# EAGLE library part ST2378ETTR (library mgr_components)
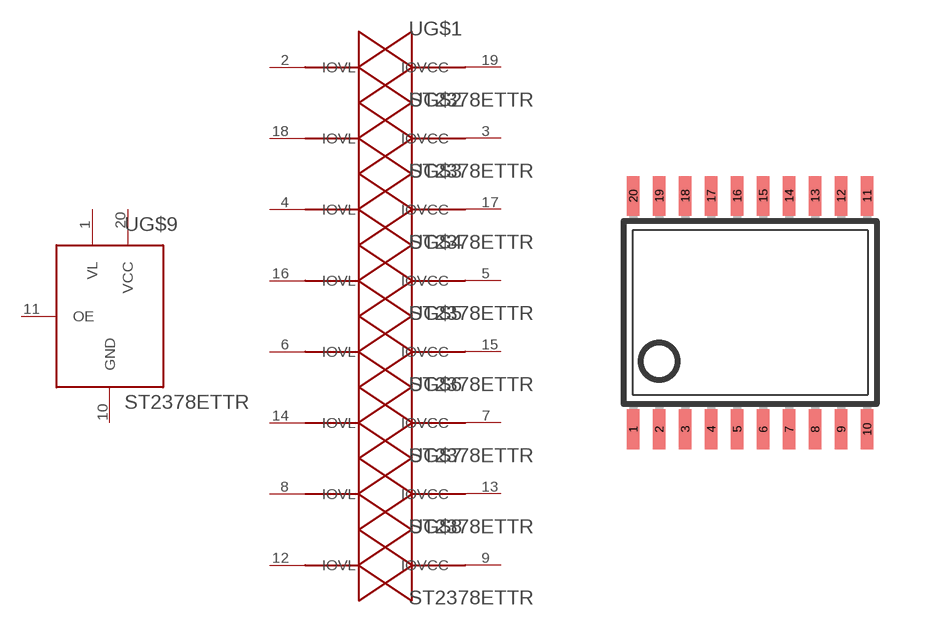
[diagram p2: symbol with the pads of TSSOP20; footprint TSSOP20]

Designator prefix -; gates G$1=ST2378E G$2=ST2378E G$3=ST2378E G$4=ST2378E G$5=ST2378E G$6=ST2378E G$7=ST2378E G$8=ST2378E G$9=ST237E_PWR

## ST2378ETTR  [TSSOP20]
1  G$9:VL  pwr
2  G$1:IOVL
3  G$2:IOVCC
4  G$3:IOVL
5  G$4:IOVCC
6  G$5:IOVL
7  G$6:IOVCC
8  G$7:IOVL
9  G$8:IOVCC
10  G$9:GND  pwr
11  G$9:OE
12  G$8:IOVL
13  G$7:IOVCC
14  G$6:IOVL
15  G$5:IOVCC
16  G$4:IOVL
17  G$3:IOVCC
18  G$2:IOVL
19  G$1:IOVCC
20  G$9:VCC  pwr

## Footprint TSSOP20 (pad centres in mm)
smd 0.305 x 0.991: 1 -2.925,-2.918; 2 -2.275,-2.918; 3 -1.625,-2.918; 4 -0.975,-2.918; 5 -0.325,-2.918; 6 0.325,-2.918; 7 0.975,-2.918; 8 1.625,-2.918; 9 2.275,-2.918; 10 2.925,-2.918; 11 2.925,2.918; 12 2.275,2.918; 13 1.625,2.918; 14 0.975,2.918; 15 0.325,2.918; 16 -0.325,2.918; 17 -0.975,2.918; 18 -1.625,2.918; 19 -2.275,2.918; 20 -2.925,2.918